# EAGLE library part ARDUINO-PRO-MINI (library arduino-pro-mini)
Arduino Pro Mini
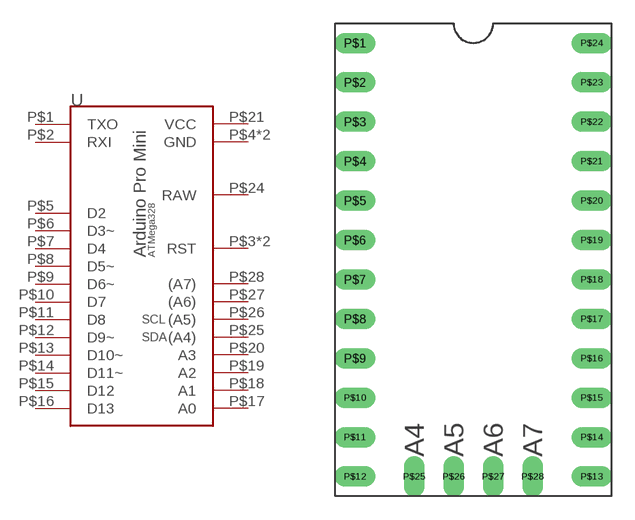
[diagram p0: symbol with the pads of DIP24-A47; footprint DIP24-A47]

Designator prefix -

## ARDUINO-PRO-MINIDIP24-A47  [DIP24-A47]
P$1  TXO
P$2  RXI  in
P$3  RST
P$4  GND
P$5  D2
P$6  D3~
P$7  D4
P$8  D5~
P$9  D6~
P$10  D7
P$11  D8
P$12  D9~
P$13  D10~
P$14  D11~
P$15  D12
P$16  D13
P$17  A0
P$18  A1
P$19  A2
P$20  A3
P$21  VCC
P$22  RST
P$23  GND
P$24  RAW
P$25  (A4)
P$26  (A5)
P$27  (A6)
P$28  (A7)

## Footprint DIP24-A47 (pad centres in mm)
drill 0.8 pad 1.27 long: P$1 -7.62,13.97; P$2 -7.62,11.43; P$3 -7.62,8.89; P$4 -7.62,6.35; P$5 -7.62,3.81; P$6 -7.62,1.27; P$7 -7.62,-1.27; P$8 -7.62,-3.81; P$9 -7.62,-6.35; P$10 -7.62,-8.89; P$11 -7.62,-11.43; P$12 -7.62,-13.97; P$13 7.62,-13.97; P$14 7.62,-11.43; P$15 7.62,-8.89; P$16 7.62,-6.35; P$17 7.62,-3.81; P$18 7.62,-1.27; P$19 7.62,1.27; P$20 7.62,3.81; P$21 7.62,6.35; P$22 7.62,8.89; P$23 7.62,11.43; P$24 7.62,13.97; P$25 -3.81,-13.97; P$26 -1.27,-13.97; P$27 1.27,-13.97; P$28 3.81,-13.97